# Altium schematic symbol library Connectors.SchLib: 31 symbols
Pins are listed as number, name and electrical type; pins without a type are passive.

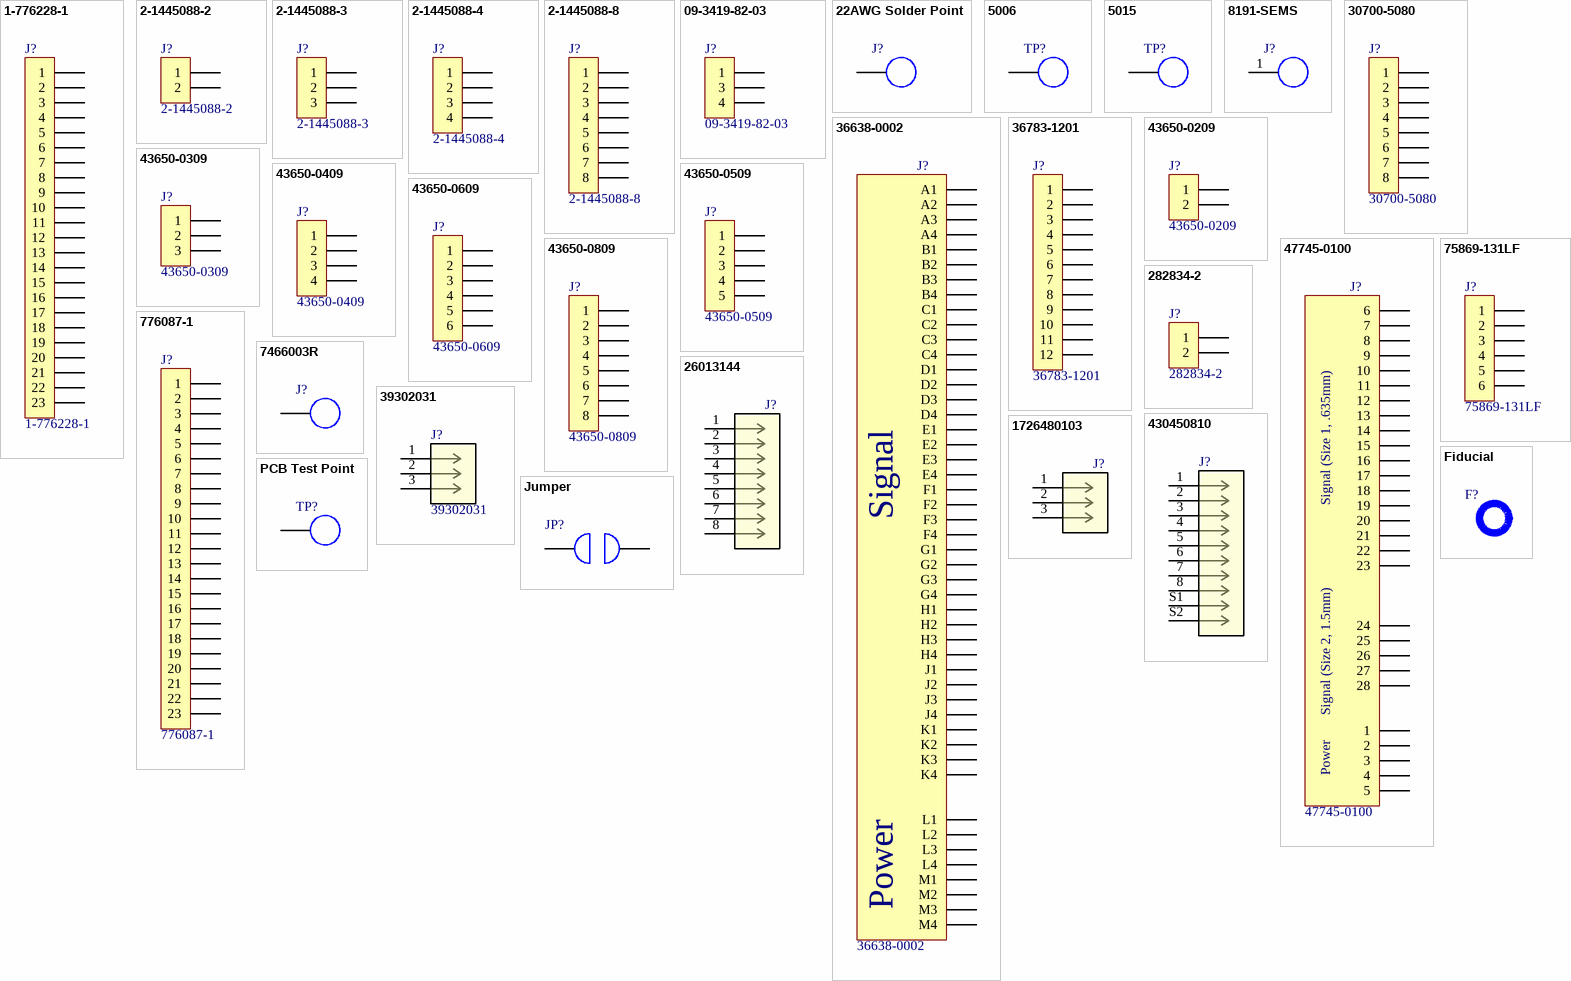
[diagram p0: symbols 1-776228-1 to PCB Test Point]

## 1-776228-1
designator J?
TE Connectivity 23 Position Board Header, Vertical; TargetLibrary: RITRacing-Connectors; PartNumber: 1-776228-1; Manufacturer: TE Connectivity; Publisher: T.Tallo; Published: 22Oct2016; Status: Active; ComponentLink1URL: http://www.te.com/commerce/DocumentDelivery/DDEController?Action=showdoc&DocId=Customer+Drawing%7F776228%7FC13%7Fpdf%7FEnglish%7FENG_CD_776228_C13.pdf%7F1-776228-1; ComponentLink1Description: Datasheet
footprint 1-776228-1 (TE Connectivity, 23 Pin Ampseal, Vertical)
pins: 1, 2, 3, 4, 5, 6, 7, 8, 9, 10, 11, 12, 13, 14, 15, 16, 17, 18, 19, 20, 21, 22, 23

## 2-1445088-2
designator J?
TE 2 Position Board Header; Manufacturer: TE Connectivity; TargetLibrary: RITRacing-Connectors; PartNumber: 2-1445088-2; Publisher: T.Tallo; Published: 15Feb2017; Status: Active; ComponentLink1URL: http://www.te.com/commerce/DocumentDelivery/DDEController?Action=srchrtrv&DocNm=1445088&DocType=Customer+Drawing&DocLang=English&PartCntxt=2-1445088-2; ComponentLink1Description: Datasheet
footprint 2-1445088-2 (TE 2 Pin Board Header)
pins: 1, 2

## 2-1445088-3
designator J?
TE 3 Position Board Header; Manufacturer: TE Connectivity; TargetLibrary: RITRacing-Connectors; PartNumber: 2-1445088-3; Publisher: T.Tallo; Published: 15Feb2017; Status: Active; ComponentLink1URL: http://www.mouser.com/ds/2/418/NG_CD_1445088_A1-614413.pdf; ComponentLink1Description: Datasheet
footprint 2-1445088-3 (TE 3 Pin Board Header)
pins: 1, 2, 3

## 2-1445088-4
designator J?
TE 4 Position Board Header; Manufacturer: TE Connectivity; TargetLibrary: RITRacing-Connectors; PartNumber: 2-1445088-4; Publisher: T.Tallo; Published: 15Feb2017; Status: Active; ComponentLink1URL: http://www.mouser.com/ds/2/418/NG_CD_1445088_A1-614413.pdf; ComponentLink1Description: Datasheet
footprint 2-1445088-4 (TE 4 Pin Board Header)
pins: 1, 2, 3, 4

## 2-1445088-8
designator J?
TE 8 Position Board Header; Manufacturer: TE Connectivity; TargetLibrary: RITRacing-Connectors; PartNumber: 2-1445088-8; Publisher: T.Tallo; Published: 15Feb2017; Status: Active; ComponentLink1URL: http://www.mouser.com/ds/2/418/NG_CD_1445088_A1-614413.pdf; ComponentLink1Description: Datasheet
footprint 2-1445088-8 (TE 8 Pin Board Header)
pins: 1, 2, 3, 4, 5, 6, 7, 8

## 09-3419-82-03
designator J?
Binder 3 Pos. PCB Mount R.A. Connector; TargetLibrary: RITRacing-Connectors; PartNumber: 09-3419-82-03; Manufacturer: Binder; Publisher: T.Tallo; Published: 15Feb2017; Status: Active; ComponentLink1URL: http://www.mouser.com/ds/2/418/NG_CD_1445088_A1-614413.pdf; ComponentLink1Description: Datasheet
footprint 09-3419-82-03 (Binder 3 Pos. PCB Mount Connector)
pins: 1, 3, 4

## 22AWG Solder Point
designator J?
N/A; TargetLibrary: RITRacing-Connectors; Publisher: T.Tallo; Published: 22Oct2016; Status: Active
footprint 22AWG Solder Point
pins: 1

## 5006
designator TP?  (value not drawn)
Black Test Point; Manufacturer: Keystone Electronics; TargetLibrary: RITRacing-Connectors; PartNumber: 5006; Publisher: T.Tallo; Published: 22Oct2016; Status: Active; ComponentLink1URL: http://www.mouser.com/ds/2/215/005-5009-743680.pdf; ComponentLink1Description: Datasheet
footprint 5006 (Keystone Test Point)
pins: 1

## 5015
designator TP?  (value not drawn)
SMD Test Point; Manufacturer: Keystone Electronics; TargetLibrary: RITRacing-Connectors; PartNumber: 5015; Publisher: T.Tallo; Published: 22Oct2016; Status: Active; ComponentLink1URL: http://www.mouser.com/ds/2/215/005-5009-743680.pdf; ComponentLink1Description: Datasheet
footprint 5015 (SMD Test Point)
pins: 1

## 8191-SEMS
designator J?  (value not drawn)
Ring Terminal Mount; Manufacturer: Keystone Electronics; TargetLibrary: RITRacing-Connectors; PartNumber: 8191-SEMS; Publisher: T.Tallo; Published: 22Oct2016; Status: Active; ComponentLink1URL: http://www.mouser.com/ds/2/215/005-5009-743680.pdf; ComponentLink1Description: Datasheet
footprint 8191-SEMS (Ring Terminal Mount)
pins: 1

## 30700-5080
designator J?
Molex 8 Position High Density Board Header; TargetLibrary: RITRacing-Connectors; PartNumber: 30700-5080; Manufacturer: Molex; Publisher: T.Tallo; Published: 22Oct2016; Status: Active; ComponentLink1URL: http://www.molex.com/molex/products/datasheet.jsp?part=active/0307004081_PCB_HEADERS.xml; ComponentLink1Description: Datasheet
footprint 30700-5080 (Molex 8 Pin High Density Header)
pins: 1, 2, 3, 4, 5, 6, 7, 8

## 36638-0002
designator J?
Molex 48 Position Board Header, Right Angle, 40 Signal, 8 Power; TargetLibrary: RITRacing-Connectors; PartNumber: 36638-0002; Manufacturer: Molex; Publisher: T.Tallo; Published: 22Oct2016; Status: Active; ComponentLink1URL: http://www.te.com/commerce/DocumentDelivery/DDEController?Action=showdoc&DocId=Customer+Drawing%7F776228%7FC13%7Fpdf%7FEnglish%7FENG_CD_776228_C13.pdf%7F1-776228-1; ComponentLink1Description: Datasheet
footprint 36638-0002 (Molex 48 Position Right Angle Header)
pins: A1, A2, A3, A4, B1, B2, B3, B4, C1, C2, C3, C4, D1, D2, D3, D4, E1, E2, E3, E4, F1, F2, F3, F4, G1, G2, G3, G4, H1, H2, H3, H4, J1, J2, J3, J4, K1, K2, K3, K4, L1, L2, L3, L4, M1, M2, M3, M4
text: Signal; Power

## 36783-1201
designator J?
Molex 12 Position Board Header; TargetLibrary: RITRacing-Connectors; PartNumber: 36783-1201; Manufacturer: Molex; Publisher: T.Tallo; Published: 22Oct2016; Status: Active; ComponentLink1URL: http://www.molex.com/pdm_docs/sd/367831201_sd.pdf; ComponentLink1Description: Datasheet
footprint 36783-1201 (Molex 12 Pin, Shrouded Male Header)
pins: 1, 2, 3, 4, 5, 6, 7, 8, 9, 10, 11, 12

## 43650-0209
designator J?
Molex 2 Position Board Header, RIght Angle; TargetLibrary: RITRacing-Connectors; Voltage: 600V; PartNumber: 43650-0209; Manufacturer: Molex; Publisher: T.Tallo; Published: 13Aug2018; Status: Active; ComponentLink1URL: http://www.mouser.com/ds/2/418/NG_CD_1445088_A1-614413.pdf; ComponentLink1Description: Datasheet
footprint 43650-0209 (Molex 2 Position Board Header, Right Angle)
pins: 1, 2

## 43650-0309
designator J?
Molex 3 Position Board Header, RIght Angle; TargetLibrary: RITRacing-Connectors; Voltage: 600V; PartNumber: 43650-0309; Manufacturer: Molex; Publisher: T.Tallo; Published: 13Aug2018; Status: Active; ComponentLink1URL: http://www.mouser.com/ds/2/418/NG_CD_1445088_A1-614413.pdf; ComponentLink1Description: Datasheet
footprint 43650-0309 (Molex 3 Position Board Header, Right Angle)
pins: 1, 2, 3

## 43650-0409
designator J?
Molex 4 Position Board Header, RIght Angle; TargetLibrary: RITRacing-Connectors; Voltage: 600V; PartNumber: 43650-0409; Manufacturer: Molex; Publisher: T.Tallo; Published: 13Aug2018; Status: Active; ComponentLink1URL: http://www.mouser.com/ds/2/418/NG_CD_1445088_A1-614413.pdf; ComponentLink1Description: Datasheet
footprint 43650-0409 (Molex 4 Position Board Header, Right Angle)
pins: 1, 2, 3, 4

## 43650-0509
designator J?
Molex 5 Position Board Header, RIght Angle; TargetLibrary: RITRacing-Connectors; Voltage: 600V; PartNumber: 43650-0509; Manufacturer: Molex; Publisher: T.Tallo; Published: 13Aug2018; Status: Active; ComponentLink1URL: http://www.mouser.com/ds/2/418/NG_CD_1445088_A1-614413.pdf; ComponentLink1Description: Datasheet
footprint 43650-0509 (Molex 5 Position Board Header, Right Angle)
pins: 1, 2, 3, 4, 5

## 43650-0609
designator J?
Molex 6 Position Board Header, RIght Angle; TargetLibrary: RITRacing-Connectors; Voltage: 600V; PartNumber: 43650-0609; Manufacturer: Molex; Publisher: T.Tallo; Published: 13Aug2018; Status: Active; ComponentLink1URL: http://www.mouser.com/ds/2/418/NG_CD_1445088_A1-614413.pdf; ComponentLink1Description: Datasheet
footprint 43650-0609 (Molex 6 Position Board Header, Right Angle)
pins: 1, 2, 3, 4, 5, 6

## 43650-0809
designator J?
Molex 8 Position Board Header, RIght Angle; TargetLibrary: RITRacing-Connectors; Voltage: 600V; PartNumber: 43650-0809; Manufacturer: Molex; Publisher: T.Tallo; Published: 13Aug2018; Status: Active; ComponentLink1URL: http://www.mouser.com/ds/2/418/NG_CD_1445088_A1-614413.pdf; ComponentLink1Description: Datasheet
footprint 43650-0809 (Molex 8 Position Board Header, Right Angle)
pins: 1, 2, 3, 4, 5, 6, 7, 8

## 47745-0100
designator J?
Molex 28 Position Board Header, Right Angle, 23 Signal, 5 Power; TargetLibrary: RITRacing-Connectors; PartNumber: 47745-0100; Manufacturer: Molex; Publisher: T.Tallo; Published: 22Oct2016; Status: Active; ComponentLink1URL: https://www.molex.com/webdocs/datasheets/pdf/en-us/0477450100_PCB_HEADERS.pdf; ComponentLink1Description: Datasheet; ComponentLink2Description: Drawing; ComponentLink2URL: https://www.molex.com/pdm_docs/sd/477450100_sd.pdf
footprint 47745-0100 (Molex 28 Position Right Angle Header)
pins: 1, 2, 3, 4, 5, 6, 7, 8, 9, 10, 11, 12, 13, 14, 15, 16, 17, 18, 19, 20, 21, 22, 23, 24, 25, 26, 27, 28
text: Signal (Size 1, .635mm); Signal (Size 2, 1.5mm); Power

## 75869-131LF
designator J?
6 Position, Shrouded Male ISP header; Manufacturer: Amphenol; TargetLibrary: RITRacing-Connectors; PartNumber: 75869-131LF; Publisher: T.Tallo; Published: 13Aug2018; Status: Active
footprint 75869-131LF (6 Position ISP Programming Header)
pins: 1, 2, 3, 4, 5, 6

## 282834-2
designator J?
PCB Mount Screw Terminal; Manufacturer: TE Connectivity; TargetLibrary: RITRacing-Connectors; PartNumber: 282834-2; Publisher: T.Tallo; Published: 15Feb2017; Status: Active; ComponentLink1URL: https://www.te.com/commerce/DocumentDelivery/DDEController?Action=srchrtrv&DocNm=282834&DocType=Customer+Drawing&DocLang=English; ComponentLink1Description: Datasheet
pins: 1, 2

## 776087-1
designator J?
TE Connectivity 23 Position Board Header, Right Angle; TargetLibrary: RITRacing-Connectors; PartNumber: 776087-1; Manufacturer: TE Connectivity; Publisher: T.Tallo; Published: 22Oct2016; Status: Active; ComponentLink1URL: http://www.mouser.com/ds/2/418/NG_CD_776087_E11-683120.pdf; ComponentLink1Description: Datasheet
footprint 776087-1 (TE Connectivity, 23 Pin Ampseal)
pins: 1, 2, 3, 4, 5, 6, 7, 8, 9, 10, 11, 12, 13, 14, 15, 16, 17, 18, 19, 20, 21, 22, 23

## 7466003R
designator J?  (value not drawn)
50A Screw Terminal; Manufacturer: Wurth; TargetLibrary: RITRacing-Connectors; PartNumber: 7466003R; Publisher: T.Tallo; Published: 22Oct2016; Status: Active; ComponentLink1URL: http://www.mouser.com/ds/2/215/005-5009-743680.pdf; ComponentLink1Description: Datasheet
footprint 7466003R (Wurth 50A Screw Terminal)
pins: 1

## 26013144
designator J?  (value not drawn)
Molex Mini-Fit 8 Position Board Header, RIght Angle; Mfr_Name: Molex Connector Corporation; Copyright: Copyright (C) 2021 Ultra Librarian. All rights reserved.; Manufacturer_Part_Number: 26013144; RefDes: RefDes; Type: DEV
footprint CON_26013144
pins: 1, 2, 3, 4, 5, 6, 7, 8

## 39302031
designator J?
Molex mini-fit 3-pin vertical connector; Mfr_Name: Molex Connector Corporation; Copyright: Copyright (C) 2021 Ultra Librarian. All rights reserved.; Manufacturer_Part_Number: 39302031; RefDes: RefDes; Type: DEV
footprint CON_39302031
pins: 1, 2, 3

## 430450810
designator J?  (value not drawn)
Molex micro-fit 8 pin dual row smd; Mfr_Name: Molex Connector Corporation; Copyright: Copyright (C) 2021 Ultra Librarian. All rights reserved.; Manufacturer_Part_Number: 430450810; RefDes: RefDes; Type: DEV
footprint CON_430450810_MOL
pins: 1, 2, 3, 4, 5, 6, 7, 8, S1, S2

## 1726480103
designator J?  (value not drawn)
Molex Mini-Fit 3 Position Board Connector, RIght Angle; Mfr_Name: Molex Connector Corporation; Copyright: Copyright (C) 2021 Ultra Librarian. All rights reserved.; Manufacturer_Part_Number: 1726480103; Digi-Key_Part_Number_1: WM24158-ND; RefDes: RefDes; Type: DEV
footprint CON_1726480103
pins: 1, 2, 3

## Fiducial
designator F?, comment N/A  (value not drawn)
Pick and Place Fiducial; TargetLibrary: RITRacing-Connectors; PartNumber: N/A; Manufacturer: N/A; Publisher: T.Tallo; Published: 22Oct2016; Status: Active; ComponentLink1URL: N/A; ComponentLink1Description: Datasheet
footprint Fiducial (SMD Fiducial)

## Jumper
designator JP?  (value not drawn)
SMD Jumper; Manufacturer: RIT Racing; TargetLibrary: RITRacing-Connectors; PartNumber: Jumper; Publisher: T.Tallo; Published: 22Oct2016; Status: Active; ComponentLink1URL: http://www.mouser.com/ds/2/215/005-5009-743680.pdf; ComponentLink1Description: Datasheet
footprint SMD Jumper (Surface Mount Jump)
pins: 1, 2

## PCB Test Point
designator TP?, comment N/A  (value not drawn)
PCB Test Point; Manufacturer: RIT Racing; TargetLibrary: RITRacing-Connectors; PartNumber: N/A; Publisher: T.Tallo; Published: 22Oct2016; Status: Active; ComponentLink1URL: http://www.mouser.com/ds/2/215/005-5009-743680.pdf; ComponentLink1Description: Datasheet
footprint PCB Test Point (Board Mouted Test Point)
pins: 1